# Altium footprint library E25-13-7.PcbLib: 1 footprints
Each footprint in its own frame and in the unit in brackets; x right, y up, seen from the top. Pads: shape width x height; smd on the part's side, far side on the other; paste and mask are expansions set on the pad; w line width, h text height; cw(c..) or ccw(c..) is an arc to the next point about the centre after c.
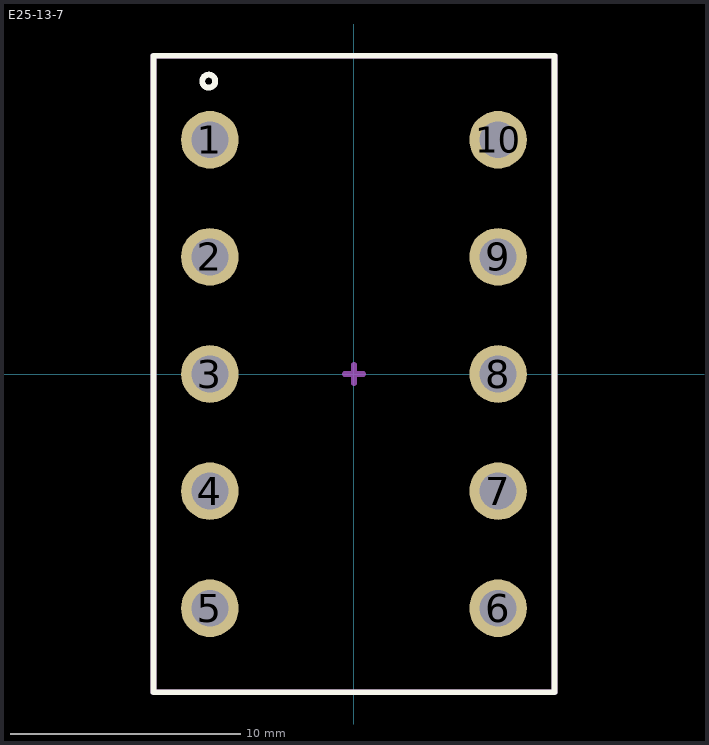
[diagram p0: the footprint, top view; thin cyan lines are the x and y axes]

## E25-13-7 [mm]
pads (10):
  round 2.5 hole 1.6: 1(-6.25,10.16) 2(-6.25,5.08) 3(-6.25,0) 4(-6.25,-5.08) 5(-6.25,-10.16) 6(6.25,-10.16) 7(6.25,-5.08) 8(6.25,0) 9(6.25,5.08) 10(6.25,10.16)
Top Overlay:
  circle w0.254: c-6.3,12.7 r0.283
  lines w0.254: -8.7,-13.8 8.7,-13.8 8.7,13.8 -8.7,13.8 -8.7,-13.8
Top Courtyard:
  lines w0.15: -8.7,-13.8 8.7,-13.8 8.7,13.8 -8.7,13.8 -8.7,-13.8
  lines w0.254: -0.4,0 0.4,0 ; 0,-0.4 0,0.4
Top Assembly:
  lines w0.254: -8.7,-13.8 8.7,-13.8 8.7,13.8 -8.7,13.8 -8.7,-13.8
  text ".designator" at -3.2,-12.967 h0.7
3D body "E25-13-7-and-B66208X(vertical).STEP": height 26.2, standoff -3.4, extent -8.65,-13.75 8.65,13.75